# Altium schematic symbol library TP.SchLib: 3 symbols
Pins are listed as number, name and electrical type; pins without a type are passive.

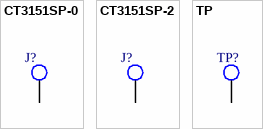
[diagram p0: symbols CT3151SP-0 to TP]

## CT3151SP-0
designator J?, comment Banana  (value not drawn)
Unit Price (USD): 2.05
footprint CT3151SP-0
pins: 1

## CT3151SP-2
designator J?, comment Banana  (value not drawn)
Unit Price (USD): 2.05
footprint CT3151SP-2
pins: 1

## TP
designator TP?  (value not drawn)  (no BOM)
footprint TP_SMD_40
pins: 1, 1